# EAGLE library part ADV7513 (library cchow_2014)
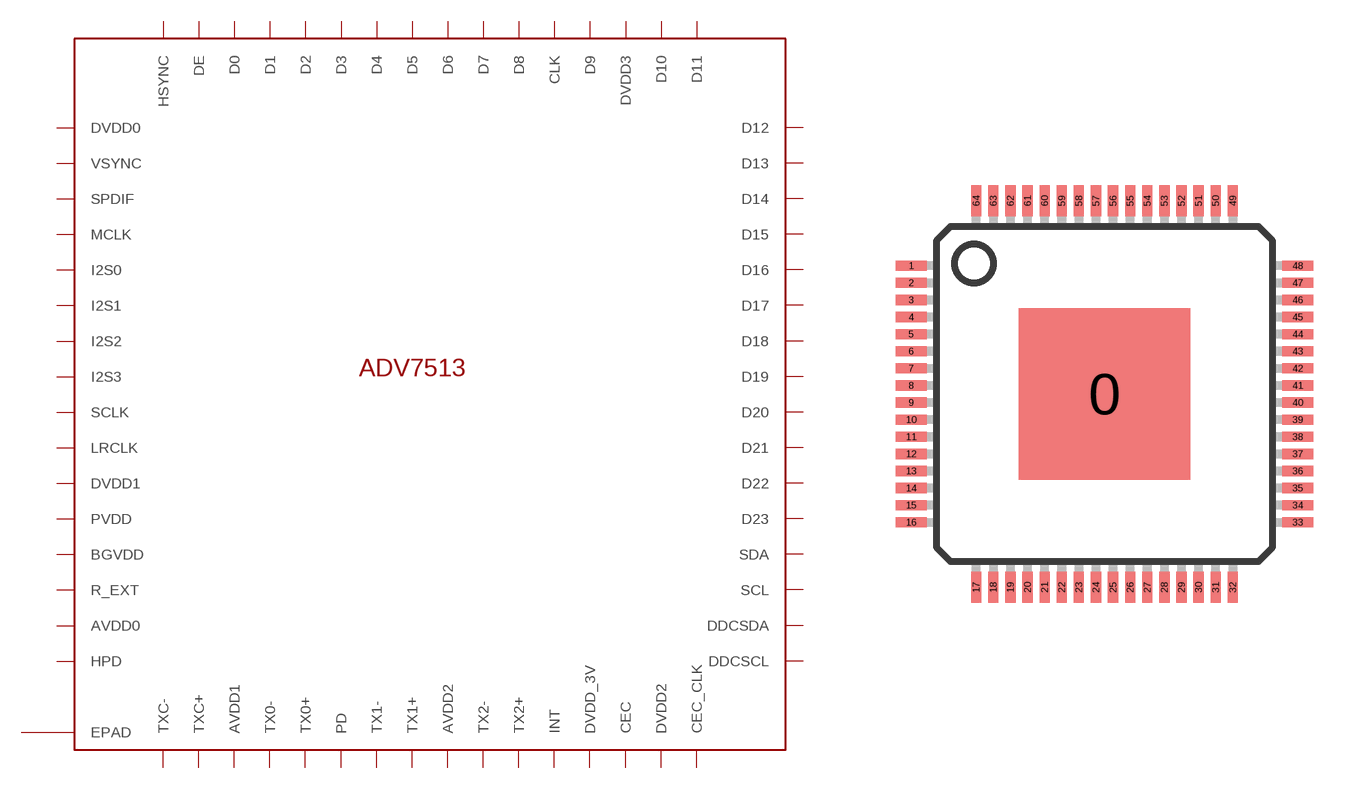
[diagram p2: symbol with the pads of LQFP-ST-64-2; footprint LQFP-ST-64-2]

Designator prefix -

## ADV7513  [LQFP-ST-64-2]
0  EPAD
1  DVDD0
2  VSYNC
3  SPDIF
4  MCLK
5  I2S0
6  I2S1
7  I2S2
8  I2S3
9  SCLK
10  LRCLK
11  DVDD1
12  PVDD
13  BGVDD
14  R_EXT
15  AVDD0
16  HPD
17  TXC-
18  TXC+
19  AVDD1
20  TX0-
21  TX0+
22  PD
23  TX1-
24  TX1+
25  AVDD2
26  TX2-
27  TX2+
28  INT
29  DVDD_3V
30  CEC
31  DVDD2
32  CEC_CLK
33  DDCSCL
34  DDCSDA
35  SCL
36  SDA
37  D23
38  D22
39  D21
40  D20
41  D19
42  D18
43  D17
44  D16
45  D15
46  D14
47  D13
48  D12
49  D11
50  D10
51  DVDD3
52  D9
53  CLK
54  D8
55  D7
56  D6
57  D5
58  D4
59  D3
60  D2
61  D1
62  D0
63  DE
64  HSYNC

## Footprint LQFP-ST-64-2 (pad centres in mm)
64-Lead Low Profile Quad Flat Package [LQFP] (ST-64-2) COMPLIANT TO JEDEC STANDARDS MS-026-BCD Source: http://www.analog.com/UploadedFiles/Data_Sheets/288945048AD7C7019_20_1_2_4_5_6_7_0.pdf
smd 5 x 5: 0 0,0
smd 0.9 x 0.3: 1 -5.65,3.75; 2 -5.65,3.25; 3 -5.65,2.75; 4 -5.65,2.25; 5 -5.65,1.75; 6 -5.65,1.25; 7 -5.65,0.75; 8 -5.65,0.25; 9 -5.65,-0.25; 10 -5.65,-0.75; 11 -5.65,-1.25; 12 -5.65,-1.75; 13 -5.65,-2.25; 14 -5.65,-2.75; 15 -5.65,-3.25; 16 -5.65,-3.75; 33 5.65,-3.75; 34 5.65,-3.25; 35 5.65,-2.75; 36 5.65,-2.25; 37 5.65,-1.75; 38 5.65,-1.25; 39 5.65,-0.75; 40 5.65,-0.25; 41 5.65,0.25; 42 5.65,0.75; 43 5.65,1.25; 44 5.65,1.75; 45 5.65,2.25; 46 5.65,2.75; 47 5.65,3.25; 48 5.65,3.75
smd 0.3 x 0.9: 17 -3.75,-5.65; 18 -3.25,-5.65; 19 -2.75,-5.65; 20 -2.25,-5.65; 21 -1.75,-5.65; 22 -1.25,-5.65; 23 -0.75,-5.65; 24 -0.25,-5.65; 25 0.25,-5.65; 26 0.75,-5.65; 27 1.25,-5.65; 28 1.75,-5.65; 29 2.25,-5.65; 30 2.75,-5.65; 31 3.25,-5.65; 32 3.75,-5.65; 49 3.75,5.65; 50 3.25,5.65; 51 2.75,5.65; 52 2.25,5.65; 53 1.75,5.65; 54 1.25,5.65; 55 0.75,5.65; 56 0.25,5.65; 57 -0.25,5.65; 58 -0.75,5.65; 59 -1.25,5.65; 60 -1.75,5.65; 61 -2.25,5.65; 62 -2.75,5.65; 63 -3.25,5.65; 64 -3.75,5.65